# Altium footprint library BAT-SMD_CR1220-2.PcbLib: 1 footprints
Each footprint in its own frame and in the unit in brackets; x right, y up, seen from the top. Pads: shape width x height; smd on the part's side, far side on the other; paste and mask are expansions set on the pad; w line width, h text height; cw(c..) or ccw(c..) is an arc to the next point about the centre after c.
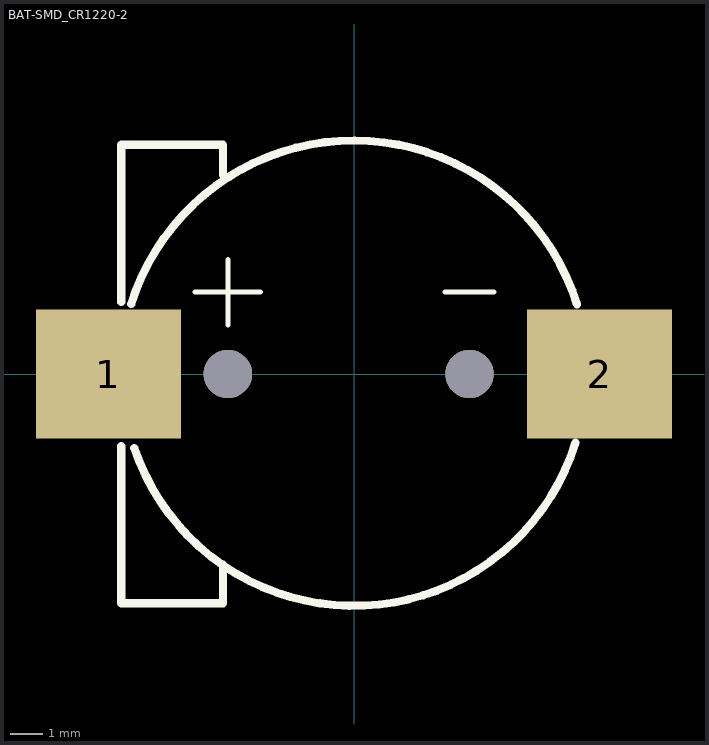
[diagram p0: the footprint, top view; thin cyan lines are the x and y axes]

## BAT-SMD_CR1220-2 [mm]
pads (4):
  rect 4.5x4 smd: 1(-7.62,0) 2(7.62,0)
  round 1.5 hole 1.5 unplated: ""(-3.912,0) ""(3.581,0)
Top Overlay:
  lines w0.152: -4.928,2.54 -2.896,2.54 ; -3.912,1.524 -3.912,3.556 ; 2.819,2.54 4.343,2.54
  lines w0.254: -7.22,-2.231 -7.22,-7.112 -4.064,-7.112 -4.064,-5.912 ; -7.22,2.231 -7.22,7.112 -4.064,7.112 -4.064,6.171 ; -6.911,2.175 cw(c0,0) 6.918,2.154 ; -6.815,-2.297 ccw(c0,0) 6.871,-2.124